# Altium schematic symbol library WCAP-CSRF.SchLib: 45 symbols
Pins are listed as number, name and electrical type; pins without a type are passive.

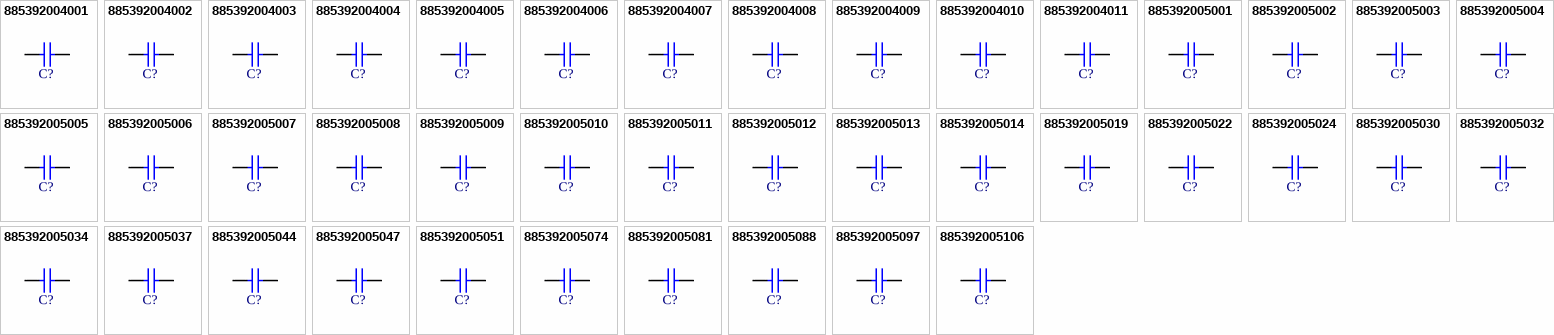
[diagram p0: symbols 885392004001 to 885392005106]

## 885392004001
designator C?, comment 0.2pF  (value not drawn)
WCAP-CSRF Multilayer Ceramic Chip Capacitor, High Frequency, size 0201, NP0 Class I, 0.2pF, 25VDC; Manufacturer Part Number: 885392004001; Manufacturer: Wurth Elektronik; Case/Size Code: 0201; Capacitance Tolerance: +/-0.05pF; Insulation Resistance: 10GΩ; Q Factor: 404; Rated Voltage (DC): 25V; Technical Reference: NP00201R20A025DFCT1R000; Category: Multilayer Ceramic Chip Capacitors; Match Code: WCAP-CSRF; ComponentLink1Description: Website Link; ComponentLink1URL: https://www.we-online.com/redexpert/article/885392004001?ad; ComponentLink2Description: Datasheet Link; ComponentLink2URL: https://www.we-online.com/redexpert/spec/885392004001?ad; Mount: Surface Mount; Operating Temperature Max: 125°C; Operating Temperature Min: -55°C; Packaging: Tape and Reel; Length: 0.6mm; Width: 0.3mm; Height: 0.3mm; Capacitance: 0.2pF; Ceramic Type: NP0 Class I
footprint WCAP-CSRF_0201_L0.6W0.3H0.3
simulation model 0201_885392004001_0.2pF
pins: 1, 2

## 885392004002
designator C?, comment 1pF  (value not drawn)
WCAP-CSRF Multilayer Ceramic Chip Capacitor, High Frequency, size 0201, NP0 Class I, 1pF, 25VDC; Manufacturer Part Number: 885392004002; Manufacturer: Wurth Elektronik; Case/Size Code: 0201; Capacitance Tolerance: +/-0.1pF; Insulation Resistance: 10GΩ; Q Factor: 420; Rated Voltage (DC): 25V; Technical Reference: NP002011R0B025DFCT1R000; Category: Multilayer Ceramic Chip Capacitors; Match Code: WCAP-CSRF; ComponentLink1Description: Website Link; ComponentLink1URL: https://www.we-online.com/redexpert/article/885392004002?ad; ComponentLink2Description: Datasheet Link; ComponentLink2URL: https://www.we-online.com/redexpert/spec/885392004002?ad; Mount: Surface Mount; Operating Temperature Max: 125°C; Operating Temperature Min: -55°C; Packaging: Tape and Reel; Length: 0.6mm; Width: 0.3mm; Height: 0.3mm; Capacitance: 1pF; Ceramic Type: NP0 Class I
footprint WCAP-CSRF_0201_L0.6W0.3H0.3
simulation model 0201_885392004002_1pF
pins: 1, 2

## 885392004003
designator C?, comment 1.2pF  (value not drawn)
WCAP-CSRF Multilayer Ceramic Chip Capacitor, High Frequency, size 0201, NP0 Class I, 1.2pF, 25VDC; Manufacturer Part Number: 885392004003; Manufacturer: Wurth Elektronik; Case/Size Code: 0201; Capacitance Tolerance: +/-0.1pF; Insulation Resistance: 10GΩ; Q Factor: 424; Rated Voltage (DC): 25V; Technical Reference: NP002011R2B025DFCT1R000; Category: Multilayer Ceramic Chip Capacitors; Match Code: WCAP-CSRF; ComponentLink1Description: Website Link; ComponentLink1URL: https://www.we-online.com/redexpert/article/885392004003?ad; ComponentLink2Description: Datasheet Link; ComponentLink2URL: https://www.we-online.com/redexpert/spec/885392004003?ad; Mount: Surface Mount; Operating Temperature Max: 125°C; Operating Temperature Min: -55°C; Packaging: Tape and Reel; Length: 0.6mm; Width: 0.3mm; Height: 0.3mm; Capacitance: 1.2pF; Ceramic Type: NP0 Class I
footprint WCAP-CSRF_0201_L0.6W0.3H0.3
simulation model 0201_885392004003_1.2pF
pins: 1, 2

## 885392004004
designator C?, comment 1.5pF  (value not drawn)
WCAP-CSRF Multilayer Ceramic Chip Capacitor, High Frequency, size 0201, NP0 Class I, 1.5pF, 25VDC; Manufacturer Part Number: 885392004004; Manufacturer: Wurth Elektronik; Case/Size Code: 0201; Capacitance Tolerance: +/-0.1pF; Insulation Resistance: 10GΩ; Q Factor: 430; Rated Voltage (DC): 25V; Technical Reference: NP002011R5B025DFCT1R000; Category: Multilayer Ceramic Chip Capacitors; Match Code: WCAP-CSRF; ComponentLink1Description: Website Link; ComponentLink1URL: https://www.we-online.com/redexpert/article/885392004004?ad; ComponentLink2Description: Datasheet Link; ComponentLink2URL: https://www.we-online.com/redexpert/spec/885392004004?ad; Mount: Surface Mount; Operating Temperature Max: 125°C; Operating Temperature Min: -55°C; Packaging: Tape and Reel; Length: 0.6mm; Width: 0.3mm; Height: 0.3mm; Capacitance: 1.5pF; Ceramic Type: NP0 Class I
footprint WCAP-CSRF_0201_L0.6W0.3H0.3
simulation model 0201_885392004004_1.5pF
pins: 1, 2

## 885392004005
designator C?, comment 2.2pF  (value not drawn)
WCAP-CSRF Multilayer Ceramic Chip Capacitor, High Frequency, size 0201, NP0 Class I, 2.2pF, 25VDC; Manufacturer Part Number: 885392004005; Manufacturer: Wurth Elektronik; Case/Size Code: 0201; Capacitance Tolerance: +/-0.1pF; Insulation Resistance: 10GΩ; Q Factor: 444; Rated Voltage (DC): 25V; Technical Reference: NP002012R2B025DFCT1R000; Category: Multilayer Ceramic Chip Capacitors; Match Code: WCAP-CSRF; ComponentLink1Description: Website Link; ComponentLink1URL: https://www.we-online.com/redexpert/article/885392004005?ad; ComponentLink2Description: Datasheet Link; ComponentLink2URL: https://www.we-online.com/redexpert/spec/885392004005?ad; Mount: Surface Mount; Operating Temperature Max: 125°C; Operating Temperature Min: -55°C; Packaging: Tape and Reel; Length: 0.6mm; Width: 0.3mm; Height: 0.3mm; Capacitance: 2.2pF; Ceramic Type: NP0 Class I
footprint WCAP-CSRF_0201_L0.6W0.3H0.3
simulation model 0201_885392004005_2.2pF
pins: 1, 2

## 885392004006
designator C?, comment 2.7pF  (value not drawn)
WCAP-CSRF Multilayer Ceramic Chip Capacitor, High Frequency, size 0201, NP0 Class I, 2.7pF, 25VDC; Manufacturer Part Number: 885392004006; Manufacturer: Wurth Elektronik; Case/Size Code: 0201; Capacitance Tolerance: +/-0.1pF; Insulation Resistance: 10GΩ; Q Factor: 454; Rated Voltage (DC): 25V; Technical Reference: NP002012R7B025DFCT1R000; Category: Multilayer Ceramic Chip Capacitors; Match Code: WCAP-CSRF; ComponentLink1Description: Website Link; ComponentLink1URL: https://www.we-online.com/redexpert/article/885392004006?ad; ComponentLink2Description: Datasheet Link; ComponentLink2URL: https://www.we-online.com/redexpert/spec/885392004006?ad; Mount: Surface Mount; Operating Temperature Max: 125°C; Operating Temperature Min: -55°C; Packaging: Tape and Reel; Length: 0.6mm; Width: 0.3mm; Height: 0.3mm; Capacitance: 2.7pF; Ceramic Type: NP0 Class I
footprint WCAP-CSRF_0201_L0.6W0.3H0.3
simulation model 0201_885392004006_2.7pF
pins: 1, 2

## 885392004007
designator C?, comment 3.3pF  (value not drawn)
WCAP-CSRF Multilayer Ceramic Chip Capacitor, High Frequency, size 0201, NP0 Class I, 3.3pF, 25VDC; Manufacturer Part Number: 885392004007; Manufacturer: Wurth Elektronik; Case/Size Code: 0201; Capacitance Tolerance: +/-0.1pF; Insulation Resistance: 10GΩ; Q Factor: 466; Rated Voltage (DC): 25V; Technical Reference: NP002013R3B025DFCT1R000; Category: Multilayer Ceramic Chip Capacitors; Match Code: WCAP-CSRF; ComponentLink1Description: Website Link; ComponentLink1URL: https://www.we-online.com/redexpert/article/885392004007?ad; ComponentLink2Description: Datasheet Link; ComponentLink2URL: https://www.we-online.com/redexpert/spec/885392004007?ad; Mount: Surface Mount; Operating Temperature Max: 125°C; Operating Temperature Min: -55°C; Packaging: Tape and Reel; Length: 0.6mm; Width: 0.3mm; Height: 0.3mm; Capacitance: 3.3pF; Ceramic Type: NP0 Class I
footprint WCAP-CSRF_0201_L0.6W0.3H0.3
simulation model 0201_885392004007_3.3pF
pins: 1, 2

## 885392004008
designator C?, comment 4.7pF  (value not drawn)
WCAP-CSRF Multilayer Ceramic Chip Capacitor, High Frequency, size 0201, NP0 Class I, 4.7pF, 25VDC; Manufacturer Part Number: 885392004008; Manufacturer: Wurth Elektronik; Case/Size Code: 0201; Capacitance Tolerance: +/-0.25pF; Insulation Resistance: 10GΩ; Q Factor: 494; Rated Voltage (DC): 25V; Technical Reference: NP002014R7C025DFCT1R000; Category: Multilayer Ceramic Chip Capacitors; Match Code: WCAP-CSRF; ComponentLink1Description: Website Link; ComponentLink1URL: https://www.we-online.com/redexpert/article/885392004008?ad; ComponentLink2Description: Datasheet Link; ComponentLink2URL: https://www.we-online.com/redexpert/spec/885392004008?ad; Mount: Surface Mount; Operating Temperature Max: 125°C; Operating Temperature Min: -55°C; Packaging: Tape and Reel; Length: 0.6mm; Width: 0.3mm; Height: 0.3mm; Capacitance: 4.7pF; Ceramic Type: NP0 Class I
footprint WCAP-CSRF_0201_L0.6W0.3H0.3
simulation model 0201_885392004008_4.7pF
pins: 1, 2

## 885392004009
designator C?, comment 5.6pF  (value not drawn)
WCAP-CSRF Multilayer Ceramic Chip Capacitor, High Frequency, size 0201, NP0 Class I, 5.6pF, 25VDC; Manufacturer Part Number: 885392004009; Manufacturer: Wurth Elektronik; Case/Size Code: 0201; Capacitance Tolerance: +/-0.25pF; Insulation Resistance: 10GΩ; Q Factor: 512; Rated Voltage (DC): 25V; Technical Reference: NP002015R6C025DFCT1R000; Category: Multilayer Ceramic Chip Capacitors; Match Code: WCAP-CSRF; ComponentLink1Description: Website Link; ComponentLink1URL: https://www.we-online.com/redexpert/article/885392004009?ad; ComponentLink2Description: Datasheet Link; ComponentLink2URL: https://www.we-online.com/redexpert/spec/885392004009?ad; Mount: Surface Mount; Operating Temperature Max: 125°C; Operating Temperature Min: -55°C; Packaging: Tape and Reel; Length: 0.6mm; Width: 0.3mm; Height: 0.3mm; Capacitance: 5.6pF; Ceramic Type: NP0 Class I
footprint WCAP-CSRF_0201_L0.6W0.3H0.3
simulation model 0201_885392004009_5.6pF
pins: 1, 2

## 885392004010
designator C?, comment 9pF  (value not drawn)
WCAP-CSRF Multilayer Ceramic Chip Capacitor, High Frequency, size 0201, NP0 Class I, 9pF, 25VDC; Manufacturer Part Number: 885392004010; Manufacturer: Wurth Elektronik; Case/Size Code: 0201; Capacitance Tolerance: +/-0.5pF; Insulation Resistance: 10GΩ; Q Factor: 580; Rated Voltage (DC): 25V; Technical Reference: NP002019R0D025DFCT1R000; Category: Multilayer Ceramic Chip Capacitors; Match Code: WCAP-CSRF; ComponentLink1Description: Website Link; ComponentLink1URL: https://www.we-online.com/redexpert/article/885392004010?ad; ComponentLink2Description: Datasheet Link; ComponentLink2URL: https://www.we-online.com/redexpert/spec/885392004010?ad; Mount: Surface Mount; Operating Temperature Max: 125°C; Operating Temperature Min: -55°C; Packaging: Tape and Reel; Length: 0.6mm; Width: 0.3mm; Height: 0.3mm; Capacitance: 9pF; Ceramic Type: NP0 Class I
footprint WCAP-CSRF_0201_L0.6W0.3H0.3
simulation model 0201_885392004010_9pF
pins: 1, 2

## 885392004011
designator C?, comment 33pF  (value not drawn)
WCAP-CSRF Multilayer Ceramic Chip Capacitor, High Frequency, size 0201, NP0 Class I, 33pF, 25VDC; Manufacturer Part Number: 885392004011; Manufacturer: Wurth Elektronik; Case/Size Code: 0201; Capacitance Tolerance: +/-5%; Insulation Resistance: 10GΩ; Q Factor: 1000; Rated Voltage (DC): 25V; Technical Reference: NP00201330J025DFCT1R000; Category: Multilayer Ceramic Chip Capacitors; Match Code: WCAP-CSRF; ComponentLink1Description: Website Link; ComponentLink1URL: https://www.we-online.com/redexpert/article/885392004011?ad; ComponentLink2Description: Datasheet Link; ComponentLink2URL: https://www.we-online.com/redexpert/spec/885392004011?ad; Mount: Surface Mount; Operating Temperature Max: 125°C; Operating Temperature Min: -55°C; Packaging: Tape and Reel; Length: 0.6mm; Width: 0.3mm; Height: 0.3mm; Capacitance: 33pF; Ceramic Type: NP0 Class I
footprint WCAP-CSRF_0201_L0.6W0.3H0.3
simulation model 0201_885392004011_33pF
pins: 1, 2

## 885392005001
designator C?, comment 0.3pF  (value not drawn)
WCAP-CSRF Multilayer Ceramic Chip Capacitor, High Frequency, size 0402, NP0 Class I, 0.3pF, 50VDC; Manufacturer Part Number: 885392005001; Manufacturer: Wurth Elektronik; Case/Size Code: 0402; Capacitance Tolerance: +/-0.1pF; Insulation Resistance: 10GΩ; Q Factor: 406; Rated Voltage (DC): 50V; Technical Reference: NP00402R30B050DFCT1R000; Category: Multilayer Ceramic Chip Capacitors; Match Code: WCAP-CSRF; ComponentLink1Description: Website Link; ComponentLink1URL: https://www.we-online.com/redexpert/article/885392005001?ad; ComponentLink2Description: Datasheet Link; ComponentLink2URL: https://www.we-online.com/redexpert/spec/885392005001?ad; Mount: Surface Mount; Operating Temperature Max: 125°C; Operating Temperature Min: -55°C; Packaging: Tape and Reel; Length: 1mm; Width: 0.5mm; Height: 0.5mm; Capacitance: 0.3pF; Ceramic Type: NP0 Class I
footprint WCAP-CSRF_0402_L1W0.5H0.5
simulation model 0402_885392005001_0.3pF
pins: 1, 2

## 885392005002
designator C?, comment 0.4pF  (value not drawn)
WCAP-CSRF Multilayer Ceramic Chip Capacitor, High Frequency, size 0402, NP0 Class I, 0.4pF, 50VDC; Manufacturer Part Number: 885392005002; Manufacturer: Wurth Elektronik; Case/Size Code: 0402; Capacitance Tolerance: +/-0.05pF; Insulation Resistance: 10GΩ; Q Factor: 408; Rated Voltage (DC): 50V; Technical Reference: NP00402R40A050DFCT1R000; Category: Multilayer Ceramic Chip Capacitors; Match Code: WCAP-CSRF; ComponentLink1Description: Website Link; ComponentLink1URL: https://www.we-online.com/redexpert/article/885392005002?ad; ComponentLink2Description: Datasheet Link; ComponentLink2URL: https://www.we-online.com/redexpert/spec/885392005002?ad; Mount: Surface Mount; Operating Temperature Max: 125°C; Operating Temperature Min: -55°C; Packaging: Tape and Reel; Length: 1mm; Width: 0.5mm; Height: 0.5mm; Capacitance: 0.4pF; Ceramic Type: NP0 Class I
footprint WCAP-CSRF_0402_L1W0.5H0.5
simulation model 0402_885392005002_0.4pF
pins: 1, 2

## 885392005003
designator C?, comment 0.4pF  (value not drawn)
WCAP-CSRF Multilayer Ceramic Chip Capacitor, High Frequency, size 0402, NP0 Class I, 0.4pF, 50VDC; Manufacturer Part Number: 885392005003; Manufacturer: Wurth Elektronik; Case/Size Code: 0402; Capacitance Tolerance: +/-0.1pF; Insulation Resistance: 10GΩ; Q Factor: 408; Rated Voltage (DC): 50V; Technical Reference: NP00402R40B050DFCT1R000; Category: Multilayer Ceramic Chip Capacitors; Match Code: WCAP-CSRF; ComponentLink1Description: Website Link; ComponentLink1URL: https://www.we-online.com/redexpert/article/885392005003?ad; ComponentLink2Description: Datasheet Link; ComponentLink2URL: https://www.we-online.com/redexpert/spec/885392005003?ad; Mount: Surface Mount; Operating Temperature Max: 125°C; Operating Temperature Min: -55°C; Packaging: Tape and Reel; Length: 1mm; Width: 0.5mm; Height: 0.5mm; Capacitance: 0.4pF; Ceramic Type: NP0 Class I
footprint WCAP-CSRF_0402_L1W0.5H0.5
simulation model 0402_885392005003_0.4pF
pins: 1, 2

## 885392005004
designator C?, comment 0.5pF  (value not drawn)
WCAP-CSRF Multilayer Ceramic Chip Capacitor, High Frequency, size 0402, NP0 Class I, 0.5pF, 50VDC; Manufacturer Part Number: 885392005004; Manufacturer: Wurth Elektronik; Case/Size Code: 0402; Capacitance Tolerance: +/-0.05pF; Insulation Resistance: 10GΩ; Q Factor: 410; Rated Voltage (DC): 50V; Technical Reference: NP00402R50A050DFCT1R000; Category: Multilayer Ceramic Chip Capacitors; Match Code: WCAP-CSRF; ComponentLink1Description: Website Link; ComponentLink1URL: https://www.we-online.com/redexpert/article/885392005004?ad; ComponentLink2Description: Datasheet Link; ComponentLink2URL: https://www.we-online.com/redexpert/spec/885392005004?ad; Mount: Surface Mount; Operating Temperature Max: 125°C; Operating Temperature Min: -55°C; Packaging: Tape and Reel; Length: 1mm; Width: 0.5mm; Height: 0.5mm; Capacitance: 0.5pF; Ceramic Type: NP0 Class I
footprint WCAP-CSRF_0402_L1W0.5H0.5
simulation model 0402_885392005004_0.5pF
pins: 1, 2

## 885392005005
designator C?, comment 1pF  (value not drawn)
WCAP-CSRF Multilayer Ceramic Chip Capacitor, High Frequency, size 0402, NP0 Class I, 1pF, 50VDC; Manufacturer Part Number: 885392005005; Manufacturer: Wurth Elektronik; Case/Size Code: 0402; Capacitance Tolerance: +/-0.05pF; Insulation Resistance: 10GΩ; Q Factor: 420; Rated Voltage (DC): 50V; Technical Reference: NP004021R0A050DFCT1R000; Category: Multilayer Ceramic Chip Capacitors; Match Code: WCAP-CSRF; ComponentLink1Description: Website Link; ComponentLink1URL: https://www.we-online.com/redexpert/article/885392005005?ad; ComponentLink2Description: Datasheet Link; ComponentLink2URL: https://www.we-online.com/redexpert/spec/885392005005?ad; Mount: Surface Mount; Operating Temperature Max: 125°C; Operating Temperature Min: -55°C; Packaging: Tape and Reel; Length: 1mm; Width: 0.5mm; Height: 0.5mm; Capacitance: 1pF; Ceramic Type: NP0 Class I
footprint WCAP-CSRF_0402_L1W0.5H0.5
simulation model 0402_885392005005_1pF
pins: 1, 2

## 885392005006
designator C?, comment 1pF  (value not drawn)
WCAP-CSRF Multilayer Ceramic Chip Capacitor, High Frequency, size 0402, NP0 Class I, 1pF, 50VDC; Manufacturer Part Number: 885392005006; Manufacturer: Wurth Elektronik; Case/Size Code: 0402; Capacitance Tolerance: +/-0.1pF; Insulation Resistance: 10GΩ; Q Factor: 420; Rated Voltage (DC): 50V; Technical Reference: NP004021R0B050DFCT1R000; Category: Multilayer Ceramic Chip Capacitors; Match Code: WCAP-CSRF; ComponentLink1Description: Website Link; ComponentLink1URL: https://www.we-online.com/redexpert/article/885392005006?ad; ComponentLink2Description: Datasheet Link; ComponentLink2URL: https://www.we-online.com/redexpert/spec/885392005006?ad; Mount: Surface Mount; Operating Temperature Max: 125°C; Operating Temperature Min: -55°C; Packaging: Tape and Reel; Length: 1mm; Width: 0.5mm; Height: 0.5mm; Capacitance: 1pF; Ceramic Type: NP0 Class I
footprint WCAP-CSRF_0402_L1W0.5H0.5
simulation model 0402_885392005006_1pF
pins: 1, 2

## 885392005007
designator C?, comment 1.5pF  (value not drawn)
WCAP-CSRF Multilayer Ceramic Chip Capacitor, High Frequency, size 0402, NP0 Class I, 1.5pF, 50VDC; Manufacturer Part Number: 885392005007; Manufacturer: Wurth Elektronik; Case/Size Code: 0402; Capacitance Tolerance: +/-0.1pF; Insulation Resistance: 10GΩ; Q Factor: 430; Rated Voltage (DC): 50V; Technical Reference: NP004021R5B050DFCT1R000; Category: Multilayer Ceramic Chip Capacitors; Match Code: WCAP-CSRF; ComponentLink1Description: Website Link; ComponentLink1URL: https://www.we-online.com/redexpert/article/885392005007?ad; ComponentLink2Description: Datasheet Link; ComponentLink2URL: https://www.we-online.com/redexpert/spec/885392005007?ad; Mount: Surface Mount; Operating Temperature Max: 125°C; Operating Temperature Min: -55°C; Packaging: Tape and Reel; Length: 1mm; Width: 0.5mm; Height: 0.5mm; Capacitance: 1.5pF; Ceramic Type: NP0 Class I
footprint WCAP-CSRF_0402_L1W0.5H0.5
simulation model 0402_885392005007_1.5pF
pins: 1, 2

## 885392005008
designator C?, comment 1.8pF  (value not drawn)
WCAP-CSRF Multilayer Ceramic Chip Capacitor, High Frequency, size 0402, NP0 Class I, 1.8pF, 50VDC; Manufacturer Part Number: 885392005008; Manufacturer: Wurth Elektronik; Case/Size Code: 0402; Capacitance Tolerance: +/-0.1pF; Insulation Resistance: 10GΩ; Q Factor: 436; Rated Voltage (DC): 50V; Technical Reference: NP004021R8B050DFCT1R000; Category: Multilayer Ceramic Chip Capacitors; Match Code: WCAP-CSRF; ComponentLink1Description: Website Link; ComponentLink1URL: https://www.we-online.com/redexpert/article/885392005008?ad; ComponentLink2Description: Datasheet Link; ComponentLink2URL: https://www.we-online.com/redexpert/spec/885392005008?ad; Mount: Surface Mount; Operating Temperature Max: 125°C; Operating Temperature Min: -55°C; Packaging: Tape and Reel; Length: 1mm; Width: 0.5mm; Height: 0.5mm; Capacitance: 1.8pF; Ceramic Type: NP0 Class I
footprint WCAP-CSRF_0402_L1W0.5H0.5
simulation model 0402_885392005008_1.8pF
pins: 1, 2

## 885392005009
designator C?, comment 2.3pF  (value not drawn)
WCAP-CSRF Multilayer Ceramic Chip Capacitor, High Frequency, size 0402, NP0 Class I, 2.3pF, 50VDC; Manufacturer Part Number: 885392005009; Manufacturer: Wurth Elektronik; Case/Size Code: 0402; Capacitance Tolerance: +/-0.05pF; Insulation Resistance: 10GΩ; Q Factor: 446; Rated Voltage (DC): 50V; Technical Reference: NP004022R3A050DFCT1R000; Category: Multilayer Ceramic Chip Capacitors; Match Code: WCAP-CSRF; ComponentLink1Description: Website Link; ComponentLink1URL: https://www.we-online.com/redexpert/article/885392005009?ad; ComponentLink2Description: Datasheet Link; ComponentLink2URL: https://www.we-online.com/redexpert/spec/885392005009?ad; Mount: Surface Mount; Operating Temperature Max: 125°C; Operating Temperature Min: -55°C; Packaging: Tape and Reel; Length: 1mm; Width: 0.5mm; Height: 0.5mm; Capacitance: 2.3pF; Ceramic Type: NP0 Class I
footprint WCAP-CSRF_0402_L1W0.5H0.5
simulation model 0402_885392005009_2.3pF
pins: 1, 2

## 885392005010
designator C?, comment 3pF  (value not drawn)
WCAP-CSRF Multilayer Ceramic Chip Capacitor, High Frequency, size 0402, NP0 Class I, 3pF, 50VDC; Manufacturer Part Number: 885392005010; Manufacturer: Wurth Elektronik; Case/Size Code: 0402; Capacitance Tolerance: +/-0.1pF; Insulation Resistance: 10GΩ; Q Factor: 460; Rated Voltage (DC): 50V; Technical Reference: NP004023R0B050DFCT1R000; Category: Multilayer Ceramic Chip Capacitors; Match Code: WCAP-CSRF; ComponentLink1Description: Website Link; ComponentLink1URL: https://www.we-online.com/redexpert/article/885392005010?ad; ComponentLink2Description: Datasheet Link; ComponentLink2URL: https://www.we-online.com/redexpert/spec/885392005010?ad; Mount: Surface Mount; Operating Temperature Max: 125°C; Operating Temperature Min: -55°C; Packaging: Tape and Reel; Length: 1mm; Width: 0.5mm; Height: 0.5mm; Capacitance: 3pF; Ceramic Type: NP0 Class I
footprint WCAP-CSRF_0402_L1W0.5H0.5
simulation model 0402_885392005010_3pF
pins: 1, 2

## 885392005011
designator C?, comment 3.3pF  (value not drawn)
WCAP-CSRF Multilayer Ceramic Chip Capacitor, High Frequency, size 0402, NP0 Class I, 3.3pF, 50VDC; Manufacturer Part Number: 885392005011; Manufacturer: Wurth Elektronik; Case/Size Code: 0402; Capacitance Tolerance: +/-0.1pF; Insulation Resistance: 10GΩ; Q Factor: 466; Rated Voltage (DC): 50V; Technical Reference: NP004023R3B050DFCT1R000; Category: Multilayer Ceramic Chip Capacitors; Match Code: WCAP-CSRF; ComponentLink1Description: Website Link; ComponentLink1URL: https://www.we-online.com/redexpert/article/885392005011?ad; ComponentLink2Description: Datasheet Link; ComponentLink2URL: https://www.we-online.com/redexpert/spec/885392005011?ad; Mount: Surface Mount; Operating Temperature Max: 125°C; Operating Temperature Min: -55°C; Packaging: Tape and Reel; Length: 1mm; Width: 0.5mm; Height: 0.5mm; Capacitance: 3.3pF; Ceramic Type: NP0 Class I
footprint WCAP-CSRF_0402_L1W0.5H0.5
simulation model 0402_885392005011_3.3pF
pins: 1, 2

## 885392005012
designator C?, comment 4.7pF  (value not drawn)
WCAP-CSRF Multilayer Ceramic Chip Capacitor, High Frequency, size 0402, NP0 Class I, 4.7pF, 50VDC; Manufacturer Part Number: 885392005012; Manufacturer: Wurth Elektronik; Case/Size Code: 0402; Capacitance Tolerance: +/-0.1pF; Insulation Resistance: 10GΩ; Q Factor: 494; Rated Voltage (DC): 50V; Technical Reference: NP004024R7B050DFCT1R000; Category: Multilayer Ceramic Chip Capacitors; Match Code: WCAP-CSRF; ComponentLink1Description: Website Link; ComponentLink1URL: https://www.we-online.com/redexpert/article/885392005012?ad; ComponentLink2Description: Datasheet Link; ComponentLink2URL: https://www.we-online.com/redexpert/spec/885392005012?ad; Mount: Surface Mount; Operating Temperature Max: 125°C; Operating Temperature Min: -55°C; Packaging: Tape and Reel; Length: 1mm; Width: 0.5mm; Height: 0.5mm; Capacitance: 4.7pF; Ceramic Type: NP0 Class I
footprint WCAP-CSRF_0402_L1W0.5H0.5
simulation model 0402_885392005012_4.7pF
pins: 1, 2

## 885392005013
designator C?, comment 5.6pF  (value not drawn)
WCAP-CSRF Multilayer Ceramic Chip Capacitor, High Frequency, size 0402, NP0 Class I, 5.6pF, 50VDC; Manufacturer Part Number: 885392005013; Manufacturer: Wurth Elektronik; Case/Size Code: 0402; Capacitance Tolerance: +/-0.1pF; Insulation Resistance: 10GΩ; Q Factor: 512; Rated Voltage (DC): 50V; Technical Reference: NP004025R6B050DFCT1R000; Category: Multilayer Ceramic Chip Capacitors; Match Code: WCAP-CSRF; ComponentLink1Description: Website Link; ComponentLink1URL: https://www.we-online.com/redexpert/article/885392005013?ad; ComponentLink2Description: Datasheet Link; ComponentLink2URL: https://www.we-online.com/redexpert/spec/885392005013?ad; Mount: Surface Mount; Operating Temperature Max: 125°C; Operating Temperature Min: -55°C; Packaging: Tape and Reel; Length: 1mm; Width: 0.5mm; Height: 0.5mm; Capacitance: 5.6pF; Ceramic Type: NP0 Class I
footprint WCAP-CSRF_0402_L1W0.5H0.5
simulation model 0402_885392005013_5.6pF
pins: 1, 2

## 885392005014
designator C?, comment 9pF  (value not drawn)
WCAP-CSRF Multilayer Ceramic Chip Capacitor, High Frequency, size 0402, NP0 Class I, 9pF, 50VDC; Manufacturer Part Number: 885392005014; Manufacturer: Wurth Elektronik; Case/Size Code: 0402; Capacitance Tolerance: +/-0.25pF; Insulation Resistance: 10GΩ; Q Factor: 580; Rated Voltage (DC): 50V; Technical Reference: NP004029R0C050DFCT1R000; Category: Multilayer Ceramic Chip Capacitors; Match Code: WCAP-CSRF; ComponentLink1Description: Website Link; ComponentLink1URL: https://www.we-online.com/redexpert/article/885392005014?ad; ComponentLink2Description: Datasheet Link; ComponentLink2URL: https://www.we-online.com/redexpert/spec/885392005014?ad; Mount: Surface Mount; Operating Temperature Max: 125°C; Operating Temperature Min: -55°C; Packaging: Tape and Reel; Length: 1mm; Width: 0.5mm; Height: 0.5mm; Capacitance: 9pF; Ceramic Type: NP0 Class I
footprint WCAP-CSRF_0402_L1W0.5H0.5
simulation model 0402_885392005014_9pF
pins: 1, 2

## 885392005019
designator C?, comment 0.7pF  (value not drawn)
WCAP-CSRF Multilayer Ceramic Chip Capacitor, High Frequency, size 0402, NP0 Class I, 0.7pF, 50VDC; Manufacturer Part Number: 885392005019; Manufacturer: Wurth Elektronik; Case/Size Code: 0402; Capacitance Tolerance: +/-0.1pF; Insulation Resistance: 10GΩ; Q Factor: 414; Rated Voltage (DC): 50V; Technical Reference: NP00402R70B050DFCT1R000; Category: Multilayer Ceramic Chip Capacitors; Match Code: WCAP-CSRF; ComponentLink1Description: Website Link; ComponentLink1URL: https://www.we-online.com/redexpert/article/885392005019?ad; ComponentLink2Description: Datasheet Link; ComponentLink2URL: https://www.we-online.com/redexpert/spec/885392005019?ad; Mount: Surface Mount; Operating Temperature Max: 125°C; Operating Temperature Min: -55°C; Packaging: Tape and Reel; Length: 1mm; Width: 0.5mm; Height: 0.5mm; Capacitance: 0.7pF; Ceramic Type: NP0 Class I
footprint WCAP-CSRF_0402_L1W0.5H0.5
pins: 1, 2

## 885392005022
designator C?, comment 0.9pF  (value not drawn)
WCAP-CSRF Multilayer Ceramic Chip Capacitor, High Frequency, size 0402, NP0 Class I, 0.9pF, 50VDC; Manufacturer Part Number: 885392005022; Manufacturer: Wurth Elektronik; Case/Size Code: 0402; Capacitance Tolerance: +/-0.1pF; Insulation Resistance: 10GΩ; Q Factor: 418; Rated Voltage (DC): 50V; Technical Reference: NP00402R90B050DFCT1R000; Category: Multilayer Ceramic Chip Capacitors; Match Code: WCAP-CSRF; ComponentLink1Description: Website Link; ComponentLink1URL: https://www.we-online.com/redexpert/article/885392005022?ad; ComponentLink2Description: Datasheet Link; ComponentLink2URL: https://www.we-online.com/redexpert/spec/885392005022?ad; Mount: Surface Mount; Operating Temperature Max: 125°C; Operating Temperature Min: -55°C; Packaging: Tape and Reel; Length: 1mm; Width: 0.5mm; Height: 0.5mm; Capacitance: 0.9pF; Ceramic Type: NP0 Class I
footprint WCAP-CSRF_0402_L1W0.5H0.5
pins: 1, 2

## 885392005024
designator C?, comment 1.2pF  (value not drawn)
WCAP-CSRF Multilayer Ceramic Chip Capacitor, High Frequency, size 0402, NP0 Class I, 1.2pF, 50VDC; Manufacturer Part Number: 885392005024; Manufacturer: Wurth Elektronik; Case/Size Code: 0402; Capacitance Tolerance: +/-0.1pF; Insulation Resistance: 10GΩ; Q Factor: 424; Rated Voltage (DC): 50V; Technical Reference: NP004021R2B050DFCT1R000; Category: Multilayer Ceramic Chip Capacitors; Match Code: WCAP-CSRF; ComponentLink1Description: Website Link; ComponentLink1URL: https://www.we-online.com/redexpert/article/885392005024?ad; ComponentLink2Description: Datasheet Link; ComponentLink2URL: https://www.we-online.com/redexpert/spec/885392005024?ad; Mount: Surface Mount; Operating Temperature Max: 125°C; Operating Temperature Min: -55°C; Packaging: Tape and Reel; Length: 1mm; Width: 0.5mm; Height: 0.5mm; Capacitance: 1.2pF; Ceramic Type: NP0 Class I
footprint WCAP-CSRF_0402_L1W0.5H0.5
pins: 1, 2

## 885392005030
designator C?, comment 2pF  (value not drawn)
WCAP-CSRF Multilayer Ceramic Chip Capacitor, High Frequency, size 0402, NP0 Class I, 2pF, 50VDC; Manufacturer Part Number: 885392005030; Manufacturer: Wurth Elektronik; Case/Size Code: 0402; Capacitance Tolerance: +/-0.1pF; Insulation Resistance: 10GΩ; Q Factor: 440; Rated Voltage (DC): 50V; Technical Reference: NP004022R0B050DFCT1R000; Category: Multilayer Ceramic Chip Capacitors; Match Code: WCAP-CSRF; ComponentLink1Description: Website Link; ComponentLink1URL: https://www.we-online.com/redexpert/article/885392005030?ad; ComponentLink2Description: Datasheet Link; ComponentLink2URL: https://www.we-online.com/redexpert/spec/885392005030?ad; Mount: Surface Mount; Operating Temperature Max: 125°C; Operating Temperature Min: -55°C; Packaging: Tape and Reel; Length: 1mm; Width: 0.5mm; Height: 0.5mm; Capacitance: 2pF; Ceramic Type: NP0 Class I
footprint WCAP-CSRF_0402_L1W0.5H0.5
pins: 1, 2

## 885392005032
designator C?, comment 2.2pF  (value not drawn)
WCAP-CSRF Multilayer Ceramic Chip Capacitor, High Frequency, size 0402, NP0 Class I, 2.2pF, 50VDC; Manufacturer Part Number: 885392005032; Manufacturer: Wurth Elektronik; Case/Size Code: 0402; Capacitance Tolerance: +/-0.1pF; Insulation Resistance: 10GΩ; Q Factor: 444; Rated Voltage (DC): 50V; Technical Reference: NP004022R2B050DFCT1R000; Category: Multilayer Ceramic Chip Capacitors; Match Code: WCAP-CSRF; ComponentLink1Description: Website Link; ComponentLink1URL: https://www.we-online.com/redexpert/article/885392005032?ad; ComponentLink2Description: Datasheet Link; ComponentLink2URL: https://www.we-online.com/redexpert/spec/885392005032?ad; Mount: Surface Mount; Operating Temperature Max: 125°C; Operating Temperature Min: -55°C; Packaging: Tape and Reel; Length: 1mm; Width: 0.5mm; Height: 0.5mm; Capacitance: 2.2pF; Ceramic Type: NP0 Class I
footprint WCAP-CSRF_0402_L1W0.5H0.5
pins: 1, 2

## 885392005034
designator C?, comment 2.4pF  (value not drawn)
WCAP-CSRF Multilayer Ceramic Chip Capacitor, High Frequency, size 0402, NP0 Class I, 2.4pF, 50VDC; Manufacturer Part Number: 885392005034; Manufacturer: Wurth Elektronik; Case/Size Code: 0402; Capacitance Tolerance: +/-0.1pF; Insulation Resistance: 10GΩ; Q Factor: 448; Rated Voltage (DC): 50V; Technical Reference: NP004022R4B050DFCT1R000; Category: Multilayer Ceramic Chip Capacitors; Match Code: WCAP-CSRF; ComponentLink1Description: Website Link; ComponentLink1URL: https://www.we-online.com/redexpert/article/885392005034?ad; ComponentLink2Description: Datasheet Link; ComponentLink2URL: https://www.we-online.com/redexpert/spec/885392005034?ad; Mount: Surface Mount; Operating Temperature Max: 125°C; Operating Temperature Min: -55°C; Packaging: Tape and Reel; Length: 1mm; Width: 0.5mm; Height: 0.5mm; Capacitance: 2.4pF; Ceramic Type: NP0 Class I
footprint WCAP-CSRF_0402_L1W0.5H0.5
pins: 1, 2

## 885392005037
designator C?, comment 2.7pF  (value not drawn)
WCAP-CSRF Multilayer Ceramic Chip Capacitor, High Frequency, size 0402, NP0 Class I, 2.7pF, 50VDC; Manufacturer Part Number: 885392005037; Manufacturer: Wurth Elektronik; Case/Size Code: 0402; Capacitance Tolerance: +/-0.1pF; Insulation Resistance: 10GΩ; Q Factor: 454; Rated Voltage (DC): 50V; Technical Reference: NP004022R7B050DFCT1R000; Category: Multilayer Ceramic Chip Capacitors; Match Code: WCAP-CSRF; ComponentLink1Description: Website Link; ComponentLink1URL: https://www.we-online.com/redexpert/article/885392005037?ad; ComponentLink2Description: Datasheet Link; ComponentLink2URL: https://www.we-online.com/redexpert/spec/885392005037?ad; Mount: Surface Mount; Operating Temperature Max: 125°C; Operating Temperature Min: -55°C; Packaging: Tape and Reel; Length: 1mm; Width: 0.5mm; Height: 0.5mm; Capacitance: 2.7pF; Ceramic Type: NP0 Class I
footprint WCAP-CSRF_0402_L1W0.5H0.5
pins: 1, 2

## 885392005044
designator C?, comment 3.6pF  (value not drawn)
WCAP-CSRF Multilayer Ceramic Chip Capacitor, High Frequency, size 0402, NP0 Class I, 3.6pF, 50VDC; Manufacturer Part Number: 885392005044; Manufacturer: Wurth Elektronik; Case/Size Code: 0402; Capacitance Tolerance: +/-0.1pF; Insulation Resistance: 10GΩ; Q Factor: 472; Rated Voltage (DC): 50V; Technical Reference: NP004023R6B050DFCT1R000; Category: Multilayer Ceramic Chip Capacitors; Match Code: WCAP-CSRF; ComponentLink1Description: Website Link; ComponentLink1URL: https://www.we-online.com/redexpert/article/885392005044?ad; ComponentLink2Description: Datasheet Link; ComponentLink2URL: https://www.we-online.com/redexpert/spec/885392005044?ad; Mount: Surface Mount; Operating Temperature Max: 125°C; Operating Temperature Min: -55°C; Packaging: Tape and Reel; Length: 1mm; Width: 0.5mm; Height: 0.5mm; Capacitance: 3.6pF; Ceramic Type: NP0 Class I
footprint WCAP-CSRF_0402_L1W0.5H0.5
pins: 1, 2

## 885392005047
designator C?, comment 3.9pF  (value not drawn)
WCAP-CSRF Multilayer Ceramic Chip Capacitor, High Frequency, size 0402, NP0 Class I, 3.9pF, 50VDC; Manufacturer Part Number: 885392005047; Manufacturer: Wurth Elektronik; Case/Size Code: 0402; Capacitance Tolerance: +/-0.1pF; Insulation Resistance: 10GΩ; Q Factor: 478; Rated Voltage (DC): 50V; Technical Reference: NP004023R9B050DFCT1R000; Category: Multilayer Ceramic Chip Capacitors; Match Code: WCAP-CSRF; ComponentLink1Description: Website Link; ComponentLink1URL: https://www.we-online.com/redexpert/article/885392005047?ad; ComponentLink2Description: Datasheet Link; ComponentLink2URL: https://www.we-online.com/redexpert/spec/885392005047?ad; Mount: Surface Mount; Operating Temperature Max: 125°C; Operating Temperature Min: -55°C; Packaging: Tape and Reel; Length: 1mm; Width: 0.5mm; Height: 0.5mm; Capacitance: 3.9pF; Ceramic Type: NP0 Class I
footprint WCAP-CSRF_0402_L1W0.5H0.5
pins: 1, 2

## 885392005051
designator C?, comment 4.3pF  (value not drawn)
WCAP-CSRF Multilayer Ceramic Chip Capacitor, High Frequency, size 0402, NP0 Class I, 4.3pF, 50VDC; Manufacturer Part Number: 885392005051; Manufacturer: Wurth Elektronik; Case/Size Code: 0402; Capacitance Tolerance: +/-0.1pF; Insulation Resistance: 10GΩ; Q Factor: 486; Rated Voltage (DC): 50V; Technical Reference: NP004024R3B050DFCT1R000; Category: Multilayer Ceramic Chip Capacitors; Match Code: WCAP-CSRF; ComponentLink1Description: Website Link; ComponentLink1URL: https://www.we-online.com/redexpert/article/885392005051?ad; ComponentLink2Description: Datasheet Link; ComponentLink2URL: https://www.we-online.com/redexpert/spec/885392005051?ad; Mount: Surface Mount; Operating Temperature Max: 125°C; Operating Temperature Min: -55°C; Packaging: Tape and Reel; Length: 1mm; Width: 0.5mm; Height: 0.5mm; Capacitance: 4.3pF; Ceramic Type: NP0 Class I
footprint WCAP-CSRF_0402_L1W0.5H0.5
pins: 1, 2

## 885392005074
designator C?, comment 6.8pF  (value not drawn)
WCAP-CSRF Multilayer Ceramic Chip Capacitor, High Frequency, size 0402, NP0 Class I, 6.8pF, 50VDC; Manufacturer Part Number: 885392005074; Manufacturer: Wurth Elektronik; Case/Size Code: 0402; Capacitance Tolerance: +/-0.1pF; Insulation Resistance: 10GΩ; Q Factor: 536; Rated Voltage (DC): 50V; Technical Reference: NP004026R8B050DFCT1R000; Category: Multilayer Ceramic Chip Capacitors; Match Code: WCAP-CSRF; ComponentLink1Description: Website Link; ComponentLink1URL: https://www.we-online.com/redexpert/article/885392005074?ad; ComponentLink2Description: Datasheet Link; ComponentLink2URL: https://www.we-online.com/redexpert/spec/885392005074?ad; Mount: Surface Mount; Operating Temperature Max: 125°C; Operating Temperature Min: -55°C; Packaging: Tape and Reel; Length: 1mm; Width: 0.5mm; Height: 0.5mm; Capacitance: 6.8pF; Ceramic Type: NP0 Class I
footprint WCAP-CSRF_0402_L1W0.5H0.5
pins: 1, 2

## 885392005081
designator C?, comment 7.5pF  (value not drawn)
WCAP-CSRF Multilayer Ceramic Chip Capacitor, High Frequency, size 0402, NP0 Class I, 7.5pF, 50VDC; Manufacturer Part Number: 885392005081; Manufacturer: Wurth Elektronik; Case/Size Code: 0402; Capacitance Tolerance: +/-0.1pF; Insulation Resistance: 10GΩ; Q Factor: 550; Rated Voltage (DC): 50V; Technical Reference: NP004027R5B050DFCT1R000; Category: Multilayer Ceramic Chip Capacitors; Match Code: WCAP-CSRF; ComponentLink1Description: Website Link; ComponentLink1URL: https://www.we-online.com/redexpert/article/885392005081?ad; ComponentLink2Description: Datasheet Link; ComponentLink2URL: https://www.we-online.com/redexpert/spec/885392005081?ad; Mount: Surface Mount; Operating Temperature Max: 125°C; Operating Temperature Min: -55°C; Packaging: Tape and Reel; Length: 1mm; Width: 0.5mm; Height: 0.5mm; Capacitance: 7.5pF; Ceramic Type: NP0 Class I
footprint WCAP-CSRF_0402_L1W0.5H0.5
pins: 1, 2

## 885392005088
designator C?, comment 8.2pF  (value not drawn)
WCAP-CSRF Multilayer Ceramic Chip Capacitor, High Frequency, size 0402, NP0 Class I, 8.2pF, 50VDC; Manufacturer Part Number: 885392005088; Manufacturer: Wurth Elektronik; Case/Size Code: 0402; Capacitance Tolerance: +/-0.1pF; Insulation Resistance: 10GΩ; Q Factor: 564; Rated Voltage (DC): 50V; Technical Reference: NP004028R2B050DFCT1R000; Category: Multilayer Ceramic Chip Capacitors; Match Code: WCAP-CSRF; ComponentLink1Description: Website Link; ComponentLink1URL: https://www.we-online.com/redexpert/article/885392005088?ad; ComponentLink2Description: Datasheet Link; ComponentLink2URL: https://www.we-online.com/redexpert/spec/885392005088?ad; Mount: Surface Mount; Operating Temperature Max: 125°C; Operating Temperature Min: -55°C; Packaging: Tape and Reel; Length: 1mm; Width: 0.5mm; Height: 0.5mm; Capacitance: 8.2pF; Ceramic Type: NP0 Class I
footprint WCAP-CSRF_0402_L1W0.5H0.5
pins: 1, 2

## 885392005097
designator C?, comment 9.1pF  (value not drawn)
WCAP-CSRF Multilayer Ceramic Chip Capacitor, High Frequency, size 0402, NP0 Class I, 9.1pF, 50VDC; Manufacturer Part Number: 885392005097; Manufacturer: Wurth Elektronik; Case/Size Code: 0402; Capacitance Tolerance: +/-0.1pF; Insulation Resistance: 10GΩ; Q Factor: 582; Rated Voltage (DC): 50V; Technical Reference: NP004029R1B050DFCT1R000; Category: Multilayer Ceramic Chip Capacitors; Match Code: WCAP-CSRF; ComponentLink1Description: Website Link; ComponentLink1URL: https://www.we-online.com/redexpert/article/885392005097?ad; ComponentLink2Description: Datasheet Link; ComponentLink2URL: https://www.we-online.com/redexpert/spec/885392005097?ad; Mount: Surface Mount; Operating Temperature Max: 125°C; Operating Temperature Min: -55°C; Packaging: Tape and Reel; Length: 1mm; Width: 0.5mm; Height: 0.5mm; Capacitance: 9.1pF; Ceramic Type: NP0 Class I
footprint WCAP-CSRF_0402_L1W0.5H0.5
pins: 1, 2

## 885392005106
designator C?, comment 10pF  (value not drawn)
WCAP-CSRF Multilayer Ceramic Chip Capacitor, High Frequency, size 0402, NP0 Class I, 10pF, 50VDC; Manufacturer Part Number: 885392005106; Manufacturer: Wurth Elektronik; Case/Size Code: 0402; Capacitance Tolerance: +/-5%; Insulation Resistance: 10GΩ; Q Factor: 600; Rated Voltage (DC): 50V; Technical Reference: NP00402100J050DFCT1R000; Category: Multilayer Ceramic Chip Capacitors; Match Code: WCAP-CSRF; ComponentLink1Description: Website Link; ComponentLink1URL: https://www.we-online.com/redexpert/article/885392005106?ad; ComponentLink2Description: Datasheet Link; ComponentLink2URL: https://www.we-online.com/redexpert/spec/885392005106?ad; Mount: Surface Mount; Operating Temperature Max: 125°C; Operating Temperature Min: -55°C; Packaging: Tape and Reel; Length: 1mm; Width: 0.5mm; Height: 0.5mm; Capacitance: 10pF; Ceramic Type: NP0 Class I
footprint WCAP-CSRF_0402_L1W0.5H0.5
pins: 1, 2

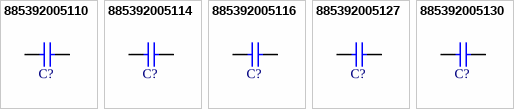
[diagram p1: symbols 885392005110 to 885392005130]

## 885392005110
designator C?, comment 15pF  (value not drawn)
WCAP-CSRF Multilayer Ceramic Chip Capacitor, High Frequency, size 0402, NP0 Class I, 15pF, 50VDC; Manufacturer Part Number: 885392005110; Manufacturer: Wurth Elektronik; Case/Size Code: 0402; Capacitance Tolerance: +/-5%; Insulation Resistance: 10GΩ; Q Factor: 700; Rated Voltage (DC): 50V; Technical Reference: NP00402150J050DFCT1R000; Category: Multilayer Ceramic Chip Capacitors; Match Code: WCAP-CSRF; ComponentLink1Description: Website Link; ComponentLink1URL: https://www.we-online.com/redexpert/article/885392005110?ad; ComponentLink2Description: Datasheet Link; ComponentLink2URL: https://www.we-online.com/redexpert/spec/885392005110?ad; Mount: Surface Mount; Operating Temperature Max: 125°C; Operating Temperature Min: -55°C; Packaging: Tape and Reel; Length: 1mm; Width: 0.5mm; Height: 0.5mm; Capacitance: 15pF; Ceramic Type: NP0 Class I
footprint WCAP-CSRF_0402_L1W0.5H0.5
pins: 1, 2

## 885392005114
designator C?, comment 22pF  (value not drawn)
WCAP-CSRF Multilayer Ceramic Chip Capacitor, High Frequency, size 0402, NP0 Class I, 22pF, 50VDC; Manufacturer Part Number: 885392005114; Manufacturer: Wurth Elektronik; Case/Size Code: 0402; Capacitance Tolerance: +/-5%; Insulation Resistance: 10GΩ; Q Factor: 840; Rated Voltage (DC): 50V; Technical Reference: NP00402220J050DFCT1R000; Category: Multilayer Ceramic Chip Capacitors; Match Code: WCAP-CSRF; ComponentLink1Description: Website Link; ComponentLink1URL: https://www.we-online.com/redexpert/article/885392005114?ad; ComponentLink2Description: Datasheet Link; ComponentLink2URL: https://www.we-online.com/redexpert/spec/885392005114?ad; Mount: Surface Mount; Operating Temperature Max: 125°C; Operating Temperature Min: -55°C; Packaging: Tape and Reel; Length: 1mm; Width: 0.5mm; Height: 0.5mm; Capacitance: 22pF; Ceramic Type: NP0 Class I
footprint WCAP-CSRF_0402_L1W0.5H0.5
pins: 1, 2

## 885392005116
designator C?, comment 27pF  (value not drawn)
WCAP-CSRF Multilayer Ceramic Chip Capacitor, High Frequency, size 0402, NP0 Class I, 27pF, 50VDC; Manufacturer Part Number: 885392005116; Manufacturer: Wurth Elektronik; Case/Size Code: 0402; Capacitance Tolerance: +/-5%; Insulation Resistance: 10GΩ; Q Factor: 940; Rated Voltage (DC): 50V; Technical Reference: NP00402270J050DFCT1R000; Category: Multilayer Ceramic Chip Capacitors; Match Code: WCAP-CSRF; ComponentLink1Description: Website Link; ComponentLink1URL: https://www.we-online.com/redexpert/article/885392005116?ad; ComponentLink2Description: Datasheet Link; ComponentLink2URL: https://www.we-online.com/redexpert/spec/885392005116?ad; Mount: Surface Mount; Operating Temperature Max: 125°C; Operating Temperature Min: -55°C; Packaging: Tape and Reel; Length: 1mm; Width: 0.5mm; Height: 0.5mm; Capacitance: 27pF; Ceramic Type: NP0 Class I
footprint WCAP-CSRF_0402_L1W0.5H0.5
pins: 1, 2

## 885392005127
designator C?, comment 12pF  (value not drawn)
WCAP-CSRF Multilayer Ceramic Chip Capacitor, High Frequency, size 0402, NP0 Class I, 12pF, 50VDC; Manufacturer Part Number: 885392005127; Manufacturer: Wurth Elektronik; Case/Size Code: 0402; Capacitance Tolerance: +/-2%; Insulation Resistance: 10GΩ; Q Factor: 640; Rated Voltage (DC): 50V; Technical Reference: NP00402120G050DFCT1R000; Category: Multilayer Ceramic Chip Capacitors; Match Code: WCAP-CSRF; ComponentLink1Description: Website Link; ComponentLink1URL: https://www.we-online.com/redexpert/article/885392005127?ad; ComponentLink2Description: Datasheet Link; ComponentLink2URL: https://www.we-online.com/redexpert/spec/885392005127?ad; Mount: Surface Mount; Operating Temperature Max: 125°C; Operating Temperature Min: -55°C; Packaging: Tape and Reel; Length: 1mm; Width: 0.5mm; Height: 0.5mm; Capacitance: 12pF; Ceramic Type: NP0 Class I
footprint WCAP-CSRF_0402_L1W0.5H0.5
pins: 1, 2

## 885392005130
designator C?, comment 0.8pF  (value not drawn)
WCAP-CSRF Multilayer Ceramic Chip Capacitor, High Frequency, size 0402, NP0 Class I, 0.8pF, 50VDC; Manufacturer Part Number: 885392005130; Manufacturer: Wurth Elektronik; Case/Size Code: 0402; Capacitance Tolerance: +/-0.05pF; Insulation Resistance: 10GΩ; Q Factor: 416; Rated Voltage (DC): 50V; Technical Reference: NP00402R80A050DFCT1R000; Category: Multilayer Ceramic Chip Capacitors; Match Code: WCAP-CSRF; ComponentLink1Description: Website Link; ComponentLink1URL: https://www.we-online.com/redexpert/article/885392005130?ad; ComponentLink2Description: Datasheet Link; ComponentLink2URL: https://www.we-online.com/redexpert/spec/885392005130?ad; Mount: Surface Mount; Operating Temperature Max: 125°C; Operating Temperature Min: -55°C; Packaging: Tape and Reel; Length: 1mm; Width: 0.5mm; Height: 0.5mm; Capacitance: 0.8pF; Ceramic Type: NP0 Class I
footprint WCAP-CSRF_0402_L1W0.5H0.5
pins: 1, 2